# Altium schematic symbol library Metal_Opera_Connectors.SchLib: 4 symbols
Pins are listed as number, name and electrical type; pins without a type are passive.

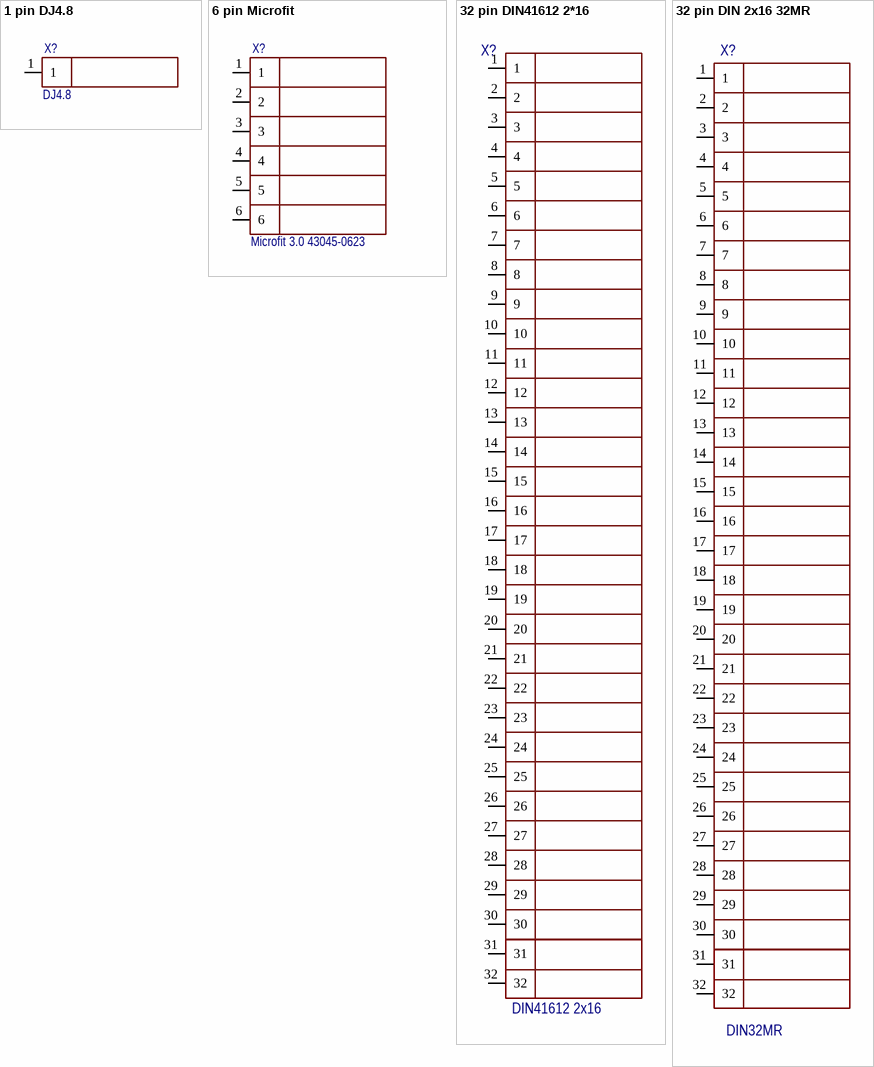
[diagram p0: symbols 1 pin DJ4.8 to 32 pin DIN 2x16 32MR]

## 1 pin DJ4.8
designator X?, comment DJ4.8
Клемма ножевая 4.8 мм
footprint DJ4.8
pins: 1

## 6 pin Microfit
designator X?, comment Microfit 3.0 43045-0623
Microfit 3.0 43045-0623 6 pin угловой разъем
footprint Molex Microfit 6pin
pins: 1, 2, 3, 4, 5, 6

## 32 pin DIN41612 2*16
designator X?, comment DIN41612 2x16
footprint DIN41612 2x16
pins: 1, 2, 3, 4, 5, 6, 7, 8, 9, 10, 11, 12, 13, 14, 15, 16, 17, 18, 19, 20, 21, 22, 23, 24, 25, 26, 27, 28, 29, 30, 31, 32

## 32 pin DIN 2x16 32MR
designator X?, comment DIN32MR
footprint DIN 2x16 32MR
pins: 1, 2, 3, 4, 5, 6, 7, 8, 9, 10, 11, 12, 13, 14, 15, 16, 17, 18, 19, 20, 21, 22, 23, 24, 25, 26, 27, 28, 29, 30, 31, 32